# EAGLE library part HDR_4X2 (library 0_skookumsynth_conn)
Pin header, Male, 4x2
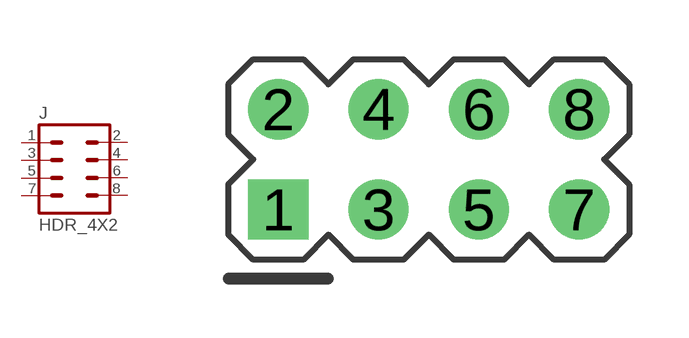
[diagram p2: symbol with the pads of HDR_4X2_M; footprint HDR_4X2_M]

Designator prefix J

## HDR_4X2M  [HDR_4X2_M]
1  1  pas
2  2  pas
3  3  pas
4  4  pas
5  5  pas
6  6  pas
7  7  pas
8  8  pas

## Footprint HDR_4X2_M (pad centres in mm)
drill 1.016 square: 1 0,0
drill 1.016: 2 0,2.54; 3 2.54,0; 4 2.54,2.54; 5 5.08,0; 6 5.08,2.54; 7 7.62,0; 8 7.62,2.54